# EAGLE library part ACS723LLCTR-05AB-T (library other)
Allegro Microsystems ACS723LLCTR-05AB-T, Current Sensor, 8-Pin, SOIC Source: Datasheet <http://www.allegromicro.com/~/media/Files/Datasheets/ACS723-Datasheet.ashx?la=en&hash=1800BF05ABE975CB295D729784D3AEABF820A0DC>
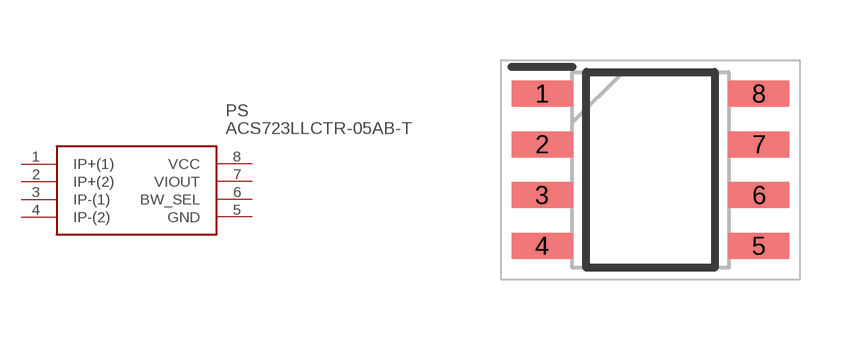
[diagram p2: symbol with the pads of SOIC127P600X175-8N; footprint SOIC127P600X175-8N]

Designator prefix PS

## ACS723LLCTR-05AB-T (ARROW_PART_NUMBER: ACS723LLCTR-05AB-T; ARROW_PRICE/STOCK: https://www.arrow.com/en/products/acs723llctr-05ab-t/allegro-microsystems; DESCRIPTION: Allegro Microsystems ACS723LLCTR-05AB-T, Current Sensor, 8-Pin, SOIC; HEIGHT: 1.75mm; MANUFACTURER_NAME: Allegro Microsystems; MANUFACTURER_PART_NUMBER: ACS723LLCTR-05AB-T; RS_PART_NUMBER: 8660767P; RS_PRICE/STOCK: http://uk.rs-online.com/web/p/products/8660767P)  [SOIC127P600X175-8N]
1  IP+(1)
2  IP+(2)
3  IP-(1)
4  IP-(2)
5  GND  pwr
6  BW_SEL
7  VIOUT  out
8  VCC  pwr

## Footprint SOIC127P600X175-8N (pad centres in mm)
8 SO
smd 1.525 x 0.65: 1 -2.712,1.905; 2 -2.712,0.635; 3 -2.712,-0.635; 4 -2.712,-1.905; 5 2.712,-1.905; 6 2.712,-0.635; 7 2.712,0.635; 8 2.712,1.905